# EAGLE library part PIMH9 (library badge)
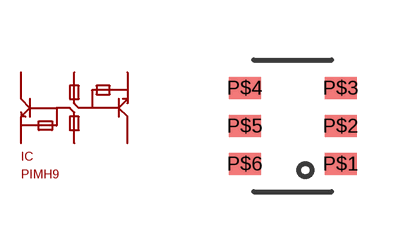
[diagram p1: symbol with the pads of SOT457; footprint SOT457]

Designator prefix IC

## PIMH9  [SOT457]
P$1  P$1
P$2  P$2
P$3  P$3
P$4  P$4
P$5  P$5
P$6  P$6

## Footprint SOT457 (pad centres in mm)
smd 0.8 x 0.55: P$1 1.2,-0.95; P$2 1.2,0; P$3 1.2,0.95; P$4 -1.2,0.95; P$5 -1.2,0; P$6 -1.2,-0.95